# EAGLE library part MAX519 (library be_dac)
drawn: Mario Blunk
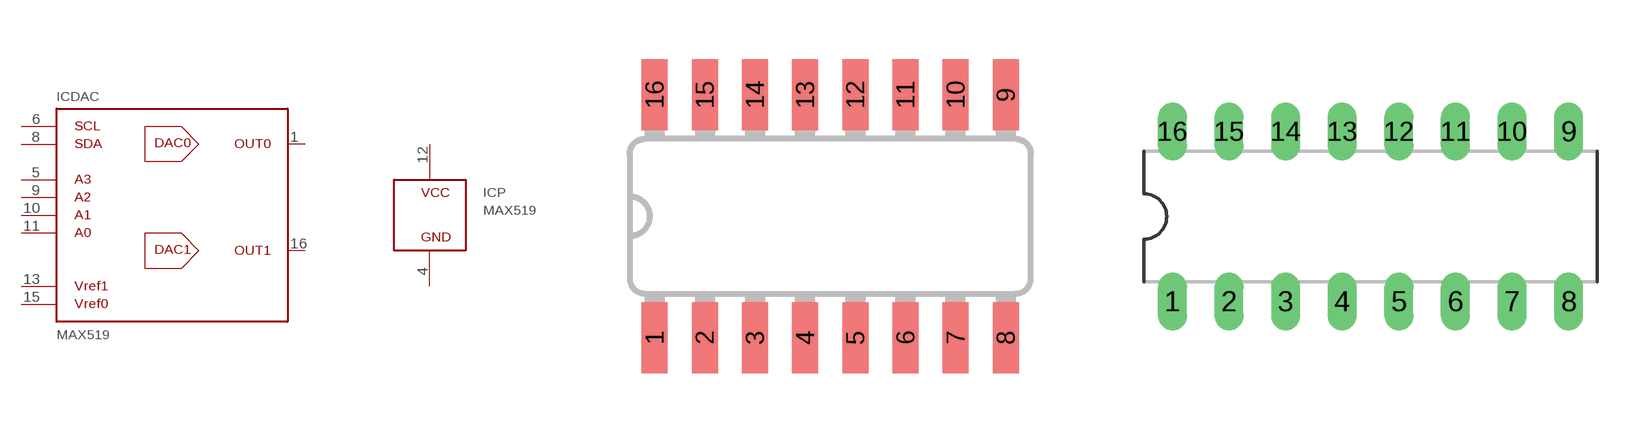
[diagram p1: symbol with the pads of S_SO16; footprints S_SO16, T_NDIP16]

Designator prefix IC; gates DAC=MAX519 P=PWR

## MAX519XXSE (BOM: YES; COMMISSIONED: 2015-02-04; PART_CODE_BEL: IC_PAC_S_SO16_VAL_MAX519XXSE)  [S_SO16]
1  DAC:OUT0  out
4  P:GND  pwr
5  DAC:A3  in
6  DAC:SCL
8  DAC:SDA
9  DAC:A2  in
10  DAC:A1  in
11  DAC:A0  in
12  P:VCC  pwr
13  DAC:VREF1  in
15  DAC:VREF0  in
16  DAC:OUT1  out

## MAX519XXPE (BOM: YES; COMMISSIONED: 2015-02-04; PART_CODE_BEL: IC_PAC_T_NDIP16_VAL_MAX519XXPE)  [T_NDIP16]
Pads as for S_SO16

## Footprint S_SO16 (pad centres in mm)
drawn: Mario Blunk date: 2015-02-04
smd 0.66 x 1.8: 1 -4.445,-3.073; 2 -3.175,-3.073; 3 -1.905,-3.073; 4 -0.635,-3.073; 5 0.635,-3.073; 6 1.905,-3.073; 7 3.175,-3.073; 8 4.445,-3.073; 9 4.445,3.073; 10 3.175,3.073; 11 1.905,3.073; 12 0.635,3.073; 13 -0.635,3.073; 14 -1.905,3.073; 15 -3.175,3.073; 16 -4.445,3.073

## Footprint T_NDIP16 (pad centres in mm)
edited: Mario Blunk / Blunk electronic date: 2015-02-03
drill 0.8 long: 1 -8.89,-3.81; 2 -6.35,-3.81; 3 -3.81,-3.81; 4 -1.27,-3.81; 5 1.27,-3.81; 6 3.81,-3.81; 7 6.35,-3.81; 8 8.89,-3.81; 9 8.89,3.81; 10 6.35,3.81; 11 3.81,3.81; 12 1.27,3.81; 13 -1.27,3.81; 14 -3.81,3.81; 15 -6.35,3.81; 16 -8.89,3.81